# Altium footprint library mb1246b.brd.PcbLib: 73 footprints (part 5 of 6)
Each footprint in its own frame and in the unit in brackets; x right, y up, seen from the top. Pads: shape width x height; smd on the part's side, far side on the other; paste and mask are expansions set on the pad; w line width, h text height; cw(c..) or ccw(c..) is an arc to the next point about the centre after c.
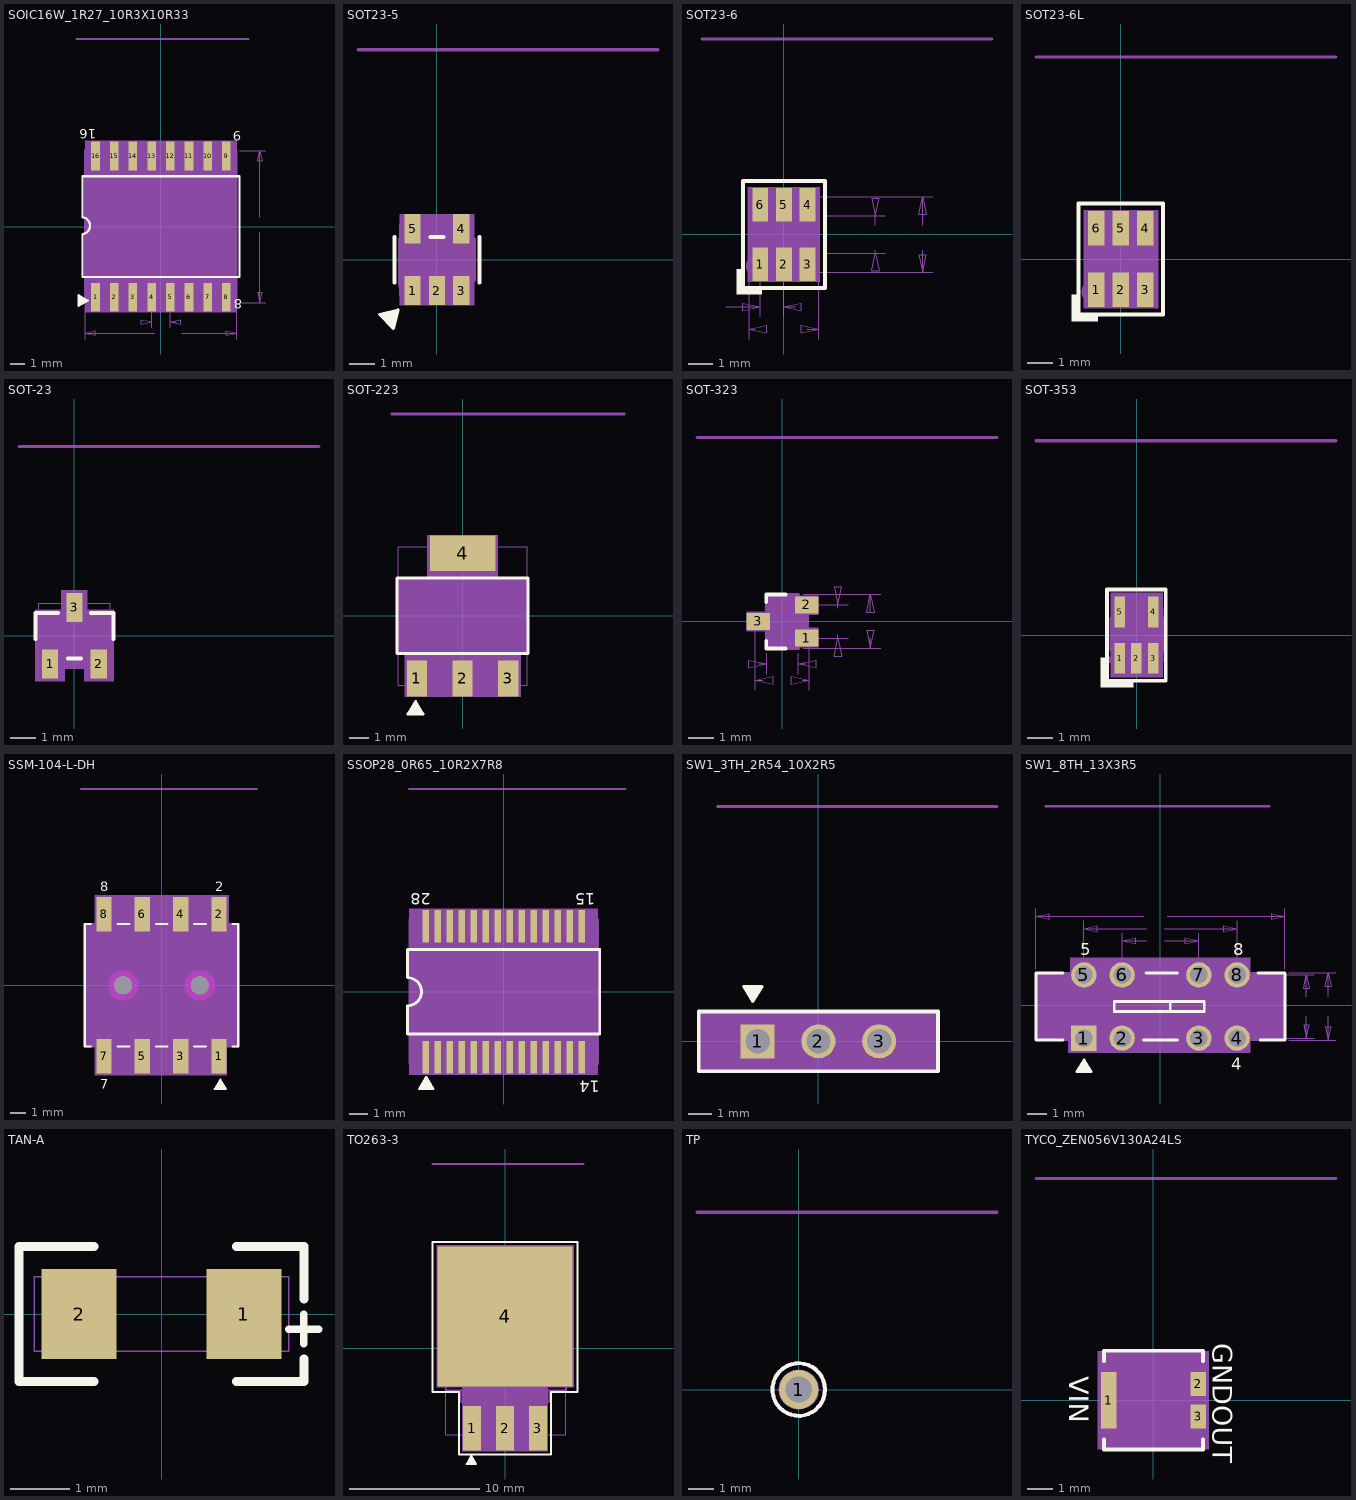
[diagram p4: the footprints below, top view; thin cyan lines are the x and y axes]

## SOIC16W_1R27_10R3X10R33 [mil] "SOIC16W_1R27_10R3X10R33"
pads (16):
  rect 23x77 smd: 1(-175,-188.78) 2(-125,-188.78) 3(-75,-188.78) 4(-25,-188.78) 5(25,-188.78) 6(75,-188.78) 7(125,-188.78) 8(175,-188.78) 9(175,188.78) 10(125,188.78) 11(75,188.78) 12(25,188.78) 13(-25,188.78) 14(-75,188.78) 15(-125,188.78) 16(-175,188.78)
Top Overlay:
  lines w5: -206.5,-197 -206.5,-202 -200.5,-198 -209.5,-192 -209.5,-203 -212.5,-205 -212.5,-190 -216.5,-188 -216.5,-208 -220.5,-208 -220.5,-213 ; -220.5,-213 -220.5,-183 -195.5,-198 -220.5,-213
  lines w6: -210,-135 210,-135 210,135 -210,135 -210,25 cw(c-212.5,2.5) -210,-20 -210,-135
  text ".Designator" at 47,295 h35
  text "16" at -173,260 h25
  text "9" at 215,255 h25
  text "8" at 217,-195 h25
Top Courtyard:
  dashed: 202.76,-229.28 202.76,229.27 -202.75,229.27 -202.75,-229.28
Top 3D Body:
  region: 202.76,-229.28 202.76,229.27 -202.75,229.27 -202.75,-229.28
Top Component Center:
  circle w1: c0,0 r11.81
  lines w1: -15.75,0 15.75,0 ; 0,-15.75 0,15.75
Top Assembly:
  circle w20: c-180,-175 r10
  lines w5: -200,-25 ccw(c-208.75,2.5) -200,30 ; -202.76,-203.25 -202.76,203.25 202.76,203.25 202.76,-203.25 -202.76,-203.25
  text "MT25TL01GHBA8ESF-0SIT" at 277,-325 h30
Mechanical42:
  text "13" at -12.2,188.78 h16
  text "14" at -62.2,188.78 h16
  text "15" at -112.2,188.78 h16
  text "9" at 181.4,188.78 h16
  text "12" at 37.8,188.78 h16
  text "8" at 181.4,-188.78 h16
  text "4" at -18.6,-188.78 h16
  text "1" at -168.6,-188.78 h16
  text "5" at 31.4,-188.78 h16
  text "6" at 81.4,-188.78 h16
  text "7" at 131.4,-188.78 h16
  text "3" at -68.6,-188.78 h16
  text "11" at 87.8,188.78 h16
  text "2" at -118.6,-188.78 h16
  text "10" at 137.8,188.78 h16
  text "16" at -162.2,188.78 h16
Mechanical44:
  lines w5: -226,502 234,502
  text "Sofer Lib Information" at -226,512 h25
  text "Ref PN: ADUM5404ARWZ" at -196,462 h25
  text "Creat : Yuki" at -196,422 h25
  text "Date  : 2007-05-10" at -196,382 h25
  text "Rev   : A1" at -196,342 h25
  text "Remark: ***" at -196,302 h25
Mechanical45:
  text "SOIC16W_1R27_10R3X10R33" at 346,-330 h30
Mechanical47:
  lines w1: -202.76,-300.75 -202.76,-211.12 ; -31,-255 -25,-255 ; -25,-270.75 -25,-196.65 ; -16,-285 -202.76,-285 ; 25,-270.75 25,-196.65 ; 41,-255 25,-255 ; 56,-285 202.76,-285 ; 202.76,-300.75 202.76,-211.12 ; 210.63,-203.25 280.75,-203.25 ; 210.63,203.25 280.75,203.25 ; 265,-15 265,-203.25 ; 265,25 265,203.25 ; -202.76,-285 -175.2,-279.09 -175.2,-290.91 -202.76,-285 ; -25,-255 -52.56,-260.91 -52.56,-249.09 -25,-255 ; 25,-255 52.56,-249.09 52.56,-260.91 25,-255 ; 202.76,-285 175.2,-290.91 175.2,-279.09 202.76,-285 ; 265,-203.25 259.09,-175.69 270.91,-175.69 265,-203.25 ; 265,203.25 270.91,175.69 259.09,175.69 265,203.25
  text "1.27" at -19,-263 h16
  text "10.3" at -4,-293 h16
  text "10.325" at 229,-3 h16
Mechanical48:
  lines w1: -202.76,-203.35 202.76,-203.35 202.76,203.35 -202.76,203.35 -202.76,-203.35
Mechanical49:
  text "Approved" at 112,0 h35
3D body: height 150, standoff 0, extent -202.75,-229.28 202.76,229.27

## SOT23-5 [mil] "SOT23-5"
pads (5):
  rect 25x45 smd: 1(-37.4,-47.24) 2(0,-47.24) 3(37.4,-47.24) 4(37.4,47.24) 5(-37.4,47.24)
Top Overlay:
  lines w5: -68.18,-83.94 -64.65,-87.47 -63.23,-80.4 -73.84,-82.53 -66.06,-90.3 -66.77,-93.84 -77.37,-83.23 -81.62,-84.65 -67.47,-98.79 -70.3,-101.62 -66.77,-105.15 ; -66.77,-105.15 -59.7,-76.87 -87.98,-83.94 -66.77,-105.15
  lines w6: -65,-35 -65,-10 -65,10 -65,35 ; -10,35 10,35 ; 65,-35 65,35
Top Courtyard:
  dashed: 57.09,-70 57.09,70 -57.09,70 -57.09,-70
Top 3D Body:
  region: 57.09,-70 57.09,70 -57.09,70 -57.09,-70
Top Component Center:
  circle w1: c0,0 r11.81
  lines w1: -15.75,0 15.75,0 ; 0,-15.75 0,15.75
Top Assembly:
  circle w20: c-40,-35 r10
  lines w5: -57.09,-31.5 57.09,-31.5 ; -57.09,-30 -57.09,30 ; -57.09,31.5 57.09,31.5 ; -46,-55.12 -29,-55.12 ; -46,-54 -46,-34 ; -46,35 -46,55 ; -46,55.12 -29,55.12 ; -29,-54 -29,-34 ; -29,35 -29,55 ; -8.5,-54 -8.5,-34 ; -8,-55.12 8,-55.12 ; 8.5,-54 8.5,-34 ; 29,-55.12 46,-55.12 ; 29,-55 29,-35 ; 29,35 29,55 ; 29,55.12 46,55.12 ; 46,-55 46,-35 ; 46,35 46,55 ; 57.09,-30 57.09,30
  text ".Designator" at -24,-15 h30
Mechanical42:
  text "2" at -6.4,-47.24 h16
  text "5" at -43.8,47.24 h16
  text "4" at 31,47.24 h16
  text "3" at 31,-47.24 h16
  text "1" at -43.8,-47.24 h16
Mechanical44:
  lines w5: -121,322 339,322
  text "Sofer Lib Information" at -121,332 h25
  text "Ref PN: ***" at -91,282 h25
  text "Creat : Sofer Tech" at -91,242 h25
  text "Date  : 2007-11-01" at -91,202 h25
  text "Rev   : A1" at -91,162 h25
  text "Remark: ***" at -91,122 h25
Mechanical45:
  text "SOT23-5" at -94,-160 h30
Mechanical48:
  lines w1: -57.09,-55.12 -57.09,55.12 57.09,55.12 57.09,-55.12 -57.09,-55.12
Mechanical49:
  text "Approved" at -112,0 h35
3D body: height 150, standoff 0, extent -57.09,-70 57.09,70

## SOT23-6 [mil] "SOT23-6"
pads (6):
  rect 25x53 smd: 1(-37.4,-47.24) 2(0,-47.24) 3(37.4,-47.24) 4(37.4,47.24) 5(0,47.24) 6(-37.4,47.24)
Top Overlay:
  dashed: -65,-55 -75,-55 -75,-95 -35,-95 -35,-85 -65,-85
  lines w6: -65,-85 -65,85 65,85 65,-85 -65,-85
Top Courtyard:
  dashed: -57.09,-75 57.09,-75 57.09,75 -57.09,75
Top 3D Body:
  region: -57.09,-75 57.09,-75 57.09,75 -57.09,75
Top Component Center:
  circle w1: c0,0 r11.81
  lines w1: -15.75,0 15.75,0 ; 0,-15.75 0,15.75
Top Assembly:
  circle w20: c-40,-50 r10
  lines w5: -45,-30 -45,-60 -30,-60 -30,-30 ; -45,30 -45,60 -30,60 -30,30 ; -7.5,-30 -7.5,-60 7.5,-60 7.5,-30 ; -7.5,30 -7.5,60 7.5,60 7.5,30 ; 30,-30 30,-60 45,-60 45,-30 ; 30,30 30,60 45,60 45,30 ; -55,-30 -55,30 55,30 55,-30 -55,-30
  text "USBLC6-4SC6" at -105,-13.33 h25
  text ".Designator" at -24,-15 h30
Mechanical42:
  text "2" at -6.4,-47.24 h16
  text "3" at 31,-47.24 h16
  text "4" at 31,47.24 h16
  text "1" at -43.8,-47.24 h16
  text "6" at -43.8,47.24 h16
  text "5" at -6.4,47.24 h16
Mechanical44:
  lines w5: -130,310 330,310
  text "Remark: update pin size by Jacky" at -100,110 h25
  text "Rev   : B2" at -100,150 h25
  text "Date  : 2009-09-28" at -100,190 h25
  text "Ref PN: RT9293BGJ6" at -100,270 h25
  text "Sofer Lib Information" at -130,320 h25
  text "Creat : Jacky" at -100,230 h25
Mechanical45:
  text "SOT23-6" at -89,-225 h30
Mechanical47:
  lines w1: -92.52,-115 -37.4,-115 ; -55,-165.75 -55,-37.87 ; -47,-150 -55,-150 ; -37.4,-130.75 -37.4,-55.12 ; 0,-130.75 0,-55.12 ; 19,-115 0,-115 ; 37,-150 55,-150 ; 52.87,-60 235.75,-60 ; 52.87,60 235.75,60 ; 55,-165.75 55,-37.87 ; 62.87,-30 160.75,-30 ; 62.87,30 160.75,30 ; 145,-25 145,-30 ; 145,15 145,30 ; 220,-25 220,-60 ; 220,15 220,60 ; -55,-150 -27.44,-155.91 -27.44,-144.09 -55,-150 ; -37.4,-115 -64.96,-109.09 -64.96,-120.91 -37.4,-115 ; 0,-115 27.56,-120.91 27.56,-109.09 0,-115 ; 55,-150 27.44,-144.09 27.44,-155.91 55,-150 ; 145,-30 139.09,-57.56 150.91,-57.56 145,-30 ; 145,30 150.91,57.56 139.09,57.56 145,30 ; 220,-60 225.91,-32.44 214.09,-32.44 220,-60 ; 220,60 214.09,32.44 225.91,32.44 220,60
  text "2.794" at -35,-158 h16
  text "3.048" at 190,-13 h16
  text "1.524" at 115,-13 h16
  text "0.95" at 31,-123 h16
Mechanical48:
  lines w1: -55,-60 -55,60 55,60 55,-60 -55,-60
Mechanical49:
  text "Approved" at -112,0 h35
3D body: height 150, standoff 0, extent -57.09,-75 57.09,75

## SOT23-6L [mil] "SOT23-6L"
pads (6):
  rect 25x53 smd: 1(-37.4,-47.24) 2(0,-47.24) 3(37.4,-47.24) 4(37.4,47.24) 5(0,47.24) 6(-37.4,47.24)
Top Overlay:
  dashed: -65,-55 -75,-55 -75,-95 -35,-95 -35,-85 -65,-85
  lines w6: -65,-85 -65,85 65,85 65,-85 -65,-85
Top Courtyard:
  dashed: -57.09,-75 57.09,-75 57.09,75 -57.09,75
Top 3D Body:
  region: -57.09,-75 57.09,-75 57.09,75 -57.09,75
Top Component Center:
  circle w1: c0,0 r11.81
  lines w1: -15.75,0 15.75,0 ; 0,-15.75 0,15.75
Top Assembly:
  circle w20: c-40,-50 r10
  lines w5: -45,-30 -45,-60 -30,-60 -30,-30 ; -45,30 -45,60 -30,60 -30,30 ; -7.5,-30 -7.5,-60 7.5,-60 7.5,-30 ; -7.5,30 -7.5,60 7.5,60 7.5,30 ; 30,-30 30,-60 45,-60 45,-30 ; 30,30 30,60 45,60 45,30 ; -55,-30 -55,30 55,30 55,-30 -55,-30
  text "ESDA6V1BC6" at 105,-13.33 h25
  text ".Designator" at 36,-15 h30
Mechanical42:
  text "6" at -31,47.24 h16
  text "5" at 6.4,47.24 h16
  text "2" at 6.4,-47.24 h16
  text "1" at -31,-47.24 h16
  text "4" at 43.8,47.24 h16
  text "3" at 43.8,-47.24 h16
Mechanical44:
  lines w5: -130,310 330,310
  text "Remark: update pin size by Jacky" at -100,110 h25
  text "Rev   : B2" at -100,150 h25
  text "Date  : 2009-09-28" at -100,190 h25
  text "Ref PN: RT9293BGJ6" at -100,270 h25
  text "Sofer Lib Information" at -130,320 h25
  text "Creat : Jacky" at -100,230 h25
Mechanical45:
  text "SOT23-6" at 79,-135 h30
Mechanical48:
  lines w1: -55,-60 -55,60 55,60 55,-60 -55,-60
Mechanical49:
  text "Approved" at 112,0 h35
3D body: height 150, standoff 0, extent -57.09,-75 57.09,75

## SOT-23 [mil] "SOT-23"
pads (3):
  rect 25x45 smd: 1(-37.4,-43.31) 2(37.4,-43.31) 3(0,43.31)
Top Overlay:
  lines w6: -60,-5 -60,35 -25,35 ; -10,-35 10,-35 ; 25,35 60,35 60,-5
  text ".Designator" at -25,80 h35
Top 3D Body:
  region: -60,-70 -15,-70 -15,-50 15,-50 15,-70 60,-70 60,40 20,40 20,70 -20,70 -20,40 -60,40
Top Component Center:
  circle w1: c0,0 r11.81
  lines w1: -15.75,0 15.75,0 ; 0,-15.75 0,15.75
Top Assembly:
  lines w6: -45,-25 -45,-50 -30,-50 -30,-25 ; -10,25 -10,50 10,50 10,25 ; 30,-25 30,-50 45,-50 45,-25 ; -55,-25 -55,25 55,25 55,-25 -55,-25
  text "9013" at 38,-110 h30
Mechanical42:
  text "3" at 6.4,43.31 h16
  text "1" at -31,-43.31 h16
  text "2" at 43.8,-43.31 h16
Mechanical44:
  lines w5: -85,290 375,290
  text "Ref PN: ***" at -55,250 h25
  text "Creat : Sofer Tech" at -55,210 h25
  text "Date  : 2009-09-28" at -55,170 h25
  text "Rev   : B2" at -55,130 h25
  text "Remark: Updated pin size by Jacky" at -55,90 h25
  text "Sofer Lib Information" at -85,300 h25
Mechanical45:
  text "SOT-23" at 79,-115 h35
Mechanical48:
  lines w1: -55,-50 -55,50 55,50 55,-50 -55,-50
Mechanical49:
  text "Approved" at 112,0 h35
3D body: height 150, standoff 0, extent -60,-70 60,70

## SOT-223 [mil] "SOT-223"
pads (4):
  rect 40x71 smd: 1(-90.55,-124.02) 2(0,-124.02) 3(90.55,-124.02)
  rect 130x71 smd: 4(0,124.02)
Top Overlay:
  lines w5: -94.2,-180.47 -89.2,-180.47 -93.2,-174.47 -99.2,-183.47 -88.2,-183.47 -86.2,-186.47 -101.2,-186.47 -103.2,-190.47 -83.2,-190.47 -83.2,-194.47 -78.2,-194.47 ; -78.2,-194.47 -93.2,-169.47 -108.2,-194.47 -78.2,-194.47
  lines w6: -130,-75 -130,70 -130,75 130,75 130,-75 -130,-75
  text ".Designator" at 5,-280 h35
Top 3D Body:
  region: -115,-160 115,-160 115,-85 115,-80 115,-75 127.95,-75 127.95,75 70,75 70,80 70,160 -70,160 -70,80 -70,75 -127.95,75 -127.95,-75 -115,-75 -115,-80
Top Component Center:
  circle w1: c0,0 r11.81
  lines w1: -15.75,0 15.75,0 ; 0,-15.75 0,15.75
Top Assembly:
  circle w20: c-90,-45 r10
  lines w5: -127.95,70 -127.95,70.08 ; -105,-70 -105,-135 -75,-135 -75,-70 ; -55,70 -55,145 55,145 55,70 ; -15,-70 -15,-135 15,-135 15,-70 ; 80,-70 75,-70 75,-135 105,-135 105,-70 ; -127.95,70.08 -127.95,-70.08 127.95,-70.08 127.95,70.08 -127.95,70.08 ; -75,-70 -80,-70 -75,-70
  text "LD1117S18TR" at 10,-147 h30
Mechanical42:
  text "1" at -90.55,-130.42 h16
  text "3" at 90.55,-130.42 h16
  text "2" at 0,-130.42 h16
  text "4" at 0,117.62 h16
Mechanical44:
  lines w5: -140,400 320,400
  text "Creat : Sofer Tech" at -110,320 h25
  text "Sofer Lib Information" at -140,410 h25
  text "Ref PN: ***" at -110,360 h25
  text "Date  : 2007-**-**" at -110,280 h25
  text "Rev   : A1" at -110,240 h25
  text "Remark: ***" at -110,200 h25
Mechanical45:
  text "SOT-223" at 25,-289 h30
Mechanical48:
  lines w1: -127.95,-137.01 -127.95,137.01 127.95,137.01 127.95,-137.01 -127.95,-137.01
Mechanical49:
  text "Approved" at 0,-112 h35
3D body: height 150, standoff 0, extent -127.95,-160 127.95,160

## SOT-323 [mil] "SOT-323"
pads (3):
  rect 36x26 smd: 1(37.4,-25.59) 2(37.4,25.59) 3(-37.4,0)
Top Overlay:
  lines w6: -24.87,-30 -24.87,-41.52 5,-41.52 ; -24.87,30 -24.87,41.16 5,41.16
Top 3D Body:
  region: 55,-39.37 55,-10 40,-10 40,10 55,10 55,39.37 -25,39.37 -25,15 -55,15 -55,-15 -25,-15 -25,-39.37
Top Component Center:
  circle w1: c0,0 r11.81
  lines w1: -15.75,0 15.75,0 ; 0,-15.75 0,15.75
Top Assembly:
  lines w5: -41.34,-6.89 -41.34,6.89 -24.41,6.89 -24.41,41.54 24.41,41.54 24.41,32.68 41.34,32.68 41.34,18.9 24.41,18.9 24.41,-18.5 41.34,-18.5 41.34,-32.28 24.41,-32.28 24.41,-41.14 -24.41,-41.14 -24.41,-6.89 -41.34,-6.89
  text "ESDCAN02-2BWY" at -156,-160 h30
  text ".Designator" at -14,-10 h30
Mechanical42:
  text "3" at -49.14,-5.33 h16
  text "1" at 25.67,-30.93 h16
  text "2" at 25.67,20.26 h16
Mechanical44:
  lines w5: -131,282 329,282
  text "Remark: ***" at -101,82 h25
  text "Rev   : C1" at -101,122 h25
  text "Date  : 2009-02-06" at -101,162 h25
  text "Creat : Yuki" at -101,202 h25
  text "Ref PN: BAV199W" at -101,242 h25
  text "Sofer Lib Information" at -131,292 h25
Mechanical45:
  text "SOT-323\SC-70" at -136,-165 h30
Mechanical47:
  lines w1: -41.34,-105.75 -41.34,-14.76 ; -36,-65 -24.41,-65 ; -30,-90 -41.34,-90 ; -24.41,-80.75 -24.41,-49.02 ; 24.41,-80.75 24.41,-49.02 ; 30,-90 41.34,-90 ; 32.28,-41.14 150.75,-41.14 ; 32.28,41.54 150.75,41.54 ; 36,-65 24.41,-65 ; 41.34,-105.75 41.34,-40.16 ; 45.28,-25.59 100.75,-25.59 ; 45.28,25.59 100.75,25.59 ; 85,-20 85,-25.59 ; 85,20 85,25.59 ; 135,-25 135,-41.14 ; 135,15 135,41.54 ; -41.34,-90 -13.78,-95.91 -13.78,-84.09 -41.34,-90 ; -24.41,-65 -51.97,-59.09 -51.97,-70.91 -24.41,-65 ; 24.41,-65 51.97,-70.91 51.97,-59.09 24.41,-65 ; 41.34,-90 13.78,-84.09 13.78,-95.91 41.34,-90 ; 85,-25.59 79.09,-53.15 90.91,-53.15 85,-25.59 ; 85,25.59 90.91,53.15 79.09,53.15 85,25.59 ; 135,-41.14 140.91,-13.58 129.09,-13.58 135,-41.14 ; 135,41.54 129.09,13.98 140.91,13.98 135,41.54
  text "2.1" at -18,-98 h16
  text "1.24" at -24,-73 h16
  text "2.1" at 117,-13 h16
  text "1.3" at 67,-8 h16
Mechanical49:
  text "Approved" at -113.67,-1.67 h35
3D body: height 150, standoff 0, extent -55,-39.37 55,39.37

## SOT-353 [mil] "SOT-353"
pads (5):
  rect 16x47 smd: 1(-25.91,-35.43) 2(-0.32,-35.43) 3(25.27,-35.43) 4(25.27,35.43) 5(-25.91,35.43)
Top Overlay:
  dashed: -45.32,-35 -55.32,-35 -55.32,-80 -5.32,-80 -5.32,-70 -45.32,-70
  lines w6: -45.32,-70 -45.32,70 44.68,70 44.68,-70 -45.32,-70
Top Courtyard:
  dashed: -39.69,-65 39.68,-65 39.68,65 -39.69,65
Top 3D Body:
  region: -39.69,-65 39.68,-65 39.68,65 -39.69,65
Top Component Center:
  circle w1: c-0.32,0 r11.81
  circle w1: c-0.32,0 r11.81
  lines w1: -16.07,0 15.43,0 -16.07,0 ; -0.32,-15.75 -0.32,15.75 -0.32,-15.75
Top Assembly:
  circle w3.94: c-41.32,-38 r2.83
  lines w3.94: -32.32,-24 -32.32,-40.83 -20.32,-40.83 ; -31.5,26 -31.5,40.83 ; -31.5,41.83 -19.5,41.83 -19.5,26 ; -20.32,-40 -20.32,-25 ; -6.32,-24 -6.32,-40.83 5.68,-40.83 ; 5.68,-40 5.68,-24 ; 19.68,-24 19.68,-40.83 31.68,-40.83 ; 19.68,26 19.68,41 ; 19.68,41.83 31.68,41.83 31.68,26 ; 31.68,-40 31.68,-24 ; -39.32,-23.61 -39.32,25.61 40.68,25.61 40.68,-23.61 -39.32,-23.61
  text "ESDALC6V1W5" at -125.32,-165 h30
  text ".Designator" at -21.32,-21 h40
Mechanical42:
  text "2" at -6.72,-35.43 h16
  text "3" at 18.87,-35.43 h16
  text "1" at -32.31,-35.43 h16
  text "5" at -32.31,35.43 h16
  text "4" at 18.87,35.43 h16
Mechanical44:
  lines w5: -154.32,298 305.68,298
  text "Remark: ***" at -124.32,98 h25
  text "Rev   : A1" at -124.32,138 h25
  text "Date  : 2007-11-30" at -124.32,178 h25
  text "Creat : Yuki" at -124.32,218 h25
  text "Ref PN: ESDALC6V1W5" at -124.32,258 h25
  text "Sofer Lib Information" at -154.32,308 h25
Mechanical45:
  text "SOT-353" at -79.32,-163 h30
Mechanical48:
  lines w1: -39.32,-41 -39.32,42 40.68,42 40.68,-41 -39.32,-41
Mechanical49:
  text "Approved" at -112.32,0 h35
3D body: height 150, standoff 0, extent -39.69,-65 39.68,65

## SSM-104-L-DH [mil] "SSM-104-L-DH"
pads (10):
  rect 40x90 smd: 1(149.61,-184.96) 2(149.61,184.96) 3(49.61,-184.96) 4(49.61,184.96) 5(-50.39,-184.96) 6(-50.39,184.96) 7(-150.39,-184.96) 8(-150.39,184.96)
  round 47 hole 47 unplated: ""(-100.39,0) ""(99.61,0)
Top Overlay:
  lines w5: 152,-256.5 157,-256.5 153,-250.5 147,-259.5 158,-259.5 160,-262.5 145,-262.5 143,-266.5 163,-266.5 163,-270.5 168,-270.5 ; 168,-270.5 153,-245.5 138,-270.5 168,-270.5
  lines w6: -185,-159.84 -200.39,-159.84 -200.39,159.84 -185,159.84 ; -115,-159.84 -85,-159.84 ; -115,159.84 -85,159.84 ; -15,-159.84 15,-159.84 ; -15,159.84 15,159.84 ; 85,-159.84 115,-159.84 ; 85,159.84 115,159.84 ; 185,-159.84 199.61,-159.84 199.61,159.84 185,159.84
  text "2" at 140,245 h25
  text ".Designator" at 231.61,271.84 h35
  text "8" at -160,245 h25
  text "7" at -160,-270 h25
Top 3D Body:
  region: -175,-235 170,-235 170,-160 200,-160 200,160 175,160 175,235 -175,235 -175,160 -200,160 -200,-160 -175,-160
Top Component Center:
  circle w1: c-0.39,0 r11.81
  lines w1: -16.14,0 15.36,0 ; -0.39,-15.75 -0.39,15.75
Multi-Layer keep-out:
  region: -100.39,-39.71 -90.11,-38.36 -80.54,-34.39 -72.31,-28.08 -66,-19.85 -62.03,-10.28 -60.68,0 -62.03,10.28 -66,19.85 -72.31,28.08 -80.54,34.39 -90.11,38.36 -100.39,39.71 -110.67,38.36 -120.24,34.39 -128.47,28.08 -134.78,19.85 -138.75,10.28 -140.1,0 -138.75,-10.28 -134.78,-19.85 -128.47,-28.08 -120.24,-34.39 -110.67,-38.36
  region: 99.61,-39.71 109.89,-38.36 119.46,-34.39 127.69,-28.08 134,-19.85 137.97,-10.28 139.32,0 137.97,10.28 134,19.85 127.69,28.08 119.46,34.39 109.89,38.36 99.61,39.71 89.33,38.36 79.76,34.39 71.53,28.08 65.22,19.85 61.25,10.28 59.9,0 61.25,-10.28 65.22,-19.85 71.53,-28.08 79.76,-34.39 89.33,-38.36
Top Assembly:
  lines w5: -200.39,-159.84 -200.39,159.84 -160.23,159.84 -160.23,220.08 159.45,220.08 159.45,159.84 199.61,159.84 199.61,-159.84 159.45,-159.84 159.45,-220.08 -160.23,-220.08 -160.23,-159.84 -200.39,-159.84
  text "F206A-2_04MGF-A" at -25,-150 h30
Mechanical42:
  text "7" at -150.39,-178.56 h16
  text "5" at -50.39,-178.56 h16
  text "2" at 149.61,191.36 h16
  text "8" at -150.39,191.36 h16
  text "6" at -50.39,191.36 h16
  text "3" at 49.61,-178.56 h16
  text "4" at 49.61,191.36 h16
  text "1" at 149.61,-178.56 h16
Mechanical44:
  lines w5: -211,512 249,512
  text "Sofer Lib Information" at -211,522 h25
  text "Ref PN: SSM-104-L-DH" at -181,472 h25
  text "Creat : Yuki" at -181,432 h25
  text "Date  : 2012-08-01" at -181,392 h25
  text "Rev   : A1" at -181,352 h25
  text "Remark: D031-006A1" at -181,312 h25
Mechanical45:
  text "SSM-104-L-DH" at 5,-186 h30
Mechanical49:
  text "OK" at -0.39,28 h35
3D body: height 150, standoff 0, extent -200,-235 200,235

## SSOP28_0R65_10R2X7R8 [mil] "SSOP28_0R65_10R2X7R8"
pads (28):
  rect 14x69 smd: 1(-166.34,-139.76) 2(-140.75,-139.76) 3(-115.16,-139.76) 4(-89.57,-139.76) 5(-63.98,-139.76) 6(-38.39,-139.76) 7(-12.8,-139.76) 8(12.8,-139.76) 9(38.39,-139.76) 10(63.98,-139.76) 11(89.57,-139.76) 12(115.16,-139.76) 13(140.75,-139.76) 14(166.34,-139.76) 15(166.34,139.76) 16(140.75,139.76) 17(115.16,139.76) 18(89.57,139.76) 19(63.98,139.76) 20(38.39,139.76) 21(12.8,139.76) 22(-12.8,139.76) 23(-38.39,139.76) 24(-63.98,139.76) 25(-89.57,139.76) 26(-115.16,139.76) 27(-140.75,139.76) 28(-166.34,139.76)
Top Overlay:
  lines w5: -166,-193.5 -161,-193.5 -165,-187.5 -171,-196.5 -160,-196.5 -158,-199.5 -173,-199.5 -175,-203.5 -155,-203.5 -155,-207.5 -150,-207.5 ; -150,-207.5 -165,-182.5 -180,-207.5 -150,-207.5
  lines w6: -205,-90 205,-90 205,90 -205,90 -205,30 cw(c-205,0) -205,-30 -205,-90
  text "14" at 205,-190 h25
  text "15" at 195,210 h25
  text "28" at -155,210 h25
Top Courtyard:
  dashed: 200.79,-177.26 200.79,177.26 -200.78,177.26 -200.78,-177.26
Top 3D Body:
  region: 200.79,-177.26 200.79,177.26 -200.78,177.26 -200.78,-177.26
Top Component Center:
  circle w1: c0,0 r11.81
  lines w1: -15.75,0 15.75,0 ; 0,-15.75 0,15.75
Top Assembly:
  circle w20: c-175,-125 r10
  lines w5: -200,-35 ccw(c-205,0) -200,35 ; -200.79,-153.54 200.79,-153.54 200.79,153.54 -200.79,153.54 -200.79,-153.54
  text ".Designator" at 37,-18.33 h40
  text "ST3241EBPR" at 70,-275 h30
Mechanical42:
  text "16" at 153.55,139.76 h16
  text "25" at -76.77,139.76 h16
  text "23" at -25.59,139.76 h16
  text "22" at 0,139.76 h16
  text "26" at -102.36,139.76 h16
  text "15" at 179.14,139.76 h16
  text "14" at 179.14,-139.76 h16
  text "12" at 127.96,-139.76 h16
  text "18" at 102.37,139.76 h16
  text "11" at 102.37,-139.76 h16
  text "19" at 76.78,139.76 h16
  text "9" at 44.79,-139.76 h16
  text "21" at 25.6,139.76 h16
  text "8" at 19.2,-139.76 h16
  text "4" at -83.17,-139.76 h16
  text "20" at 51.19,139.76 h16
  text "1" at -159.94,-139.76 h16
  text "2" at -134.35,-139.76 h16
  text "3" at -108.76,-139.76 h16
  text "24" at -51.18,139.76 h16
  text "28" at -153.54,139.76 h16
  text "27" at -127.95,139.76 h16
  text "6" at -31.99,-139.76 h16
  text "10" at 76.78,-139.76 h16
  text "5" at -57.58,-139.76 h16
  text "7" at -6.4,-139.76 h16
  text "13" at 153.55,-139.76 h16
  text "17" at 127.96,139.76 h16
Mechanical44:
  lines w5: -201,432 259,432
  text "Sofer Lib Information" at -201,442 h25
  text "Ref PN: ST3241EBPR" at -171,392 h25
  text "Creat : Yuki" at -171,352 h25
  text "Date  : 2007-12-26" at -171,312 h25
  text "Rev   : A1" at -171,272 h25
  text "Remark: ***" at -171,232 h25
Mechanical45:
  text "SSOP28_0R65_10R2X7R8" at 275,-270 h30
Mechanical48:
  lines w1: -200.79,-153.54 -200.79,153.54 200.79,153.54 200.79,-153.54 -200.79,-153.54
Mechanical49:
  text "Approved" at 112,0 h35
3D body: height 150, standoff 0, extent -200.78,-177.26 200.79,177.26

## SW1_3TH_2R54_10X2R5 [mil] "SW1_3TH_2R54_10X2R5"
pads (3):
  rect 56x56 / inner round 56 / far side rect 56x56 hole 40: 1(-100,0)
  round 56 hole 40: 2(0,0) 3(100,0)
Top Overlay:
  lines w5: -107.01,76.5 -112.01,76.5 -107.99,70.51 -102.01,79.49 -112.99,79.49 -115,82.48 -100,82.48 -97.99,86.5 -117.99,86.5 -117.99,90.51 -122.99,90.51 ; -122.99,90.51 -107.99,65.51 -92.99,90.51 -122.99,90.51
  lines w5.98: -196.85,-49.21 -196.85,49.21 196.85,49.21 196.85,-49.21 -196.85,-49.21
Top Courtyard:
  dashed: 200,-50 200,50 -200,50 -200,-50
Top 3D Body:
  region: 195,-50 195,50 -195,50 -195,-50
Top Component Center:
  circle w1: c-100,0 r11.81
  circle w1: c-100,0 r11.81
  lines w1: -115.75,0 -84.25,0 -115.75,0 ; -100,-15.75 -100,15.75 -100,-15.75
Top Assembly:
  circle w20: c-100,0 r10
  lines w5: -196.85,-49.21 -196.85,49.21 196.85,49.21 196.85,-49.21 -196.85,-49.21
  text ".Designator" at 10,21 h30
  text "09.03290.01" at 25,-3 h30
Mechanical42:
  text "3" at 100,6.39 h15.98
  text "1" at -100,6.39 h15.98
  text "2" at 0,6.39 h15.98
Mechanical44:
  lines w5: -165.98,387.01 294.02,387.01
  text "Sofer Lib Information" at -165.98,397.01 h25
  text "Ref PN: ***" at -135.98,347.01 h25
  text "Creat : Yuki" at -135.98,307.01 h25
  text "Date  : 2012-08-09" at -135.98,267.01 h25
  text "Rev   : A1" at -135.98,227.01 h25
  text "Remark: D031-006A1" at -135.98,187.01 h25
Mechanical45:
  text "SW1_3TH_2R54_10X2R5" at 30,93 h30
Mechanical49:
  text "OK" at 0,18 h35
3D body: height 150, standoff 0, extent -195,-50 195,50

## SW1_8TH_13X3R5 [mil] "SW1_8TH_13X3R5"
pads (8):
  rect 52x52 hole 36: 1(-157.48,-67.46)
  round 52 hole 36: 2(-78.74,-67.46) 3(78.74,-67.46) 4(157.48,-67.46) 5(-157.48,62.46) 6(-78.74,62.46) 7(78.74,62.46) 8(157.48,62.46)
Top Overlay:
  lines w5: -158,-123 -153,-123 -157,-117 -163,-126 -152,-126 -150,-129 -165,-129 -167,-133 -147,-133 -147,-137 -142,-137 ; -142,-137 -157,-112 -172,-137 -142,-137
  lines w6: -200,-71.4 -255.91,-71.4 -255.91,66.4 -200,66.4 ; -35,-71.4 35,-71.4 ; -30,66.4 35,66.4 ; 20,7.5 20,-12.5 90,-12.5 ; 200,66.4 255.91,66.4 255.91,-71.4 205,-71.4 ; 90,-12.5 90,7.5 ; 90,-12.5 -95,-12.5 -95,7.5 90,7.5 ; 90,-12.5 90,7.5
  text "5" at -165,102.5 h25
  text "8" at 150,102.5 h25
  text "4" at 145,-132.5 h25
  text ".Designator" at 265,-27.5 h35
Top 3D Body:
  region: -190,-97.5 185,-97.5 185,-72.5 255,-72.5 255,67.5 185,67.5 185,97.5 -185,97.5 -185,67.5 -255,67.5 -255,-72.5 -190,-72.5
Top Component Center:
  circle w1: c0,-2.5 r11.81
  lines w1: -15.75,-2.5 15.75,-2.5 ; 0,-18.25 0,13.25
Top Assembly:
  circle w20: c-158,-66.5 r10
  lines w5: 20,7.5 20,-12.5 90,-12.5 ; 90,-12.5 -95,-12.5 -95,7.5 90,7.5 ; 90,-12.5 90,7.5 ; 90,-12.5 90,7.5 ; -255.91,-71.4 -255.91,66.4 255.91,66.4 255.91,-71.4 -255.91,-71.4
  text "MS-23D18" at -156,-217.5 h30
Mechanical42:
  text "6" at -85.14,62.46 h16
  text "2" at -85.14,-67.46 h16
  text "8" at 151.08,62.46 h16
  text "7" at 72.34,62.46 h16
  text "3" at 72.34,-67.46 h16
  text "4" at 151.08,-67.46 h16
  text "1" at -163.88,-67.46 h16
  text "5" at -163.88,62.46 h16
Mechanical44:
  lines w5: -236,409.5 224,409.5
  text "Remark: D031-020A1" at -206,209.5 h25
  text "Rev   : A1" at -206,249.5 h25
  text "Date  : 2015-12-09" at -206,289.5 h25
  text "Creat : Yuki" at -206,329.5 h25
  text "Ref PN: MS-23D18-00" at -206,369.5 h25
  text "Sofer Lib Information" at -236,419.5 h25
Mechanical45:
  text "SW1_8TH_13X3R5" at -173,-217.5 h30
Mechanical46:
  text "NO" at -28,-2.5 h35
Mechanical47:
  lines w1: -255.91,74.27 -255.91,198.25 ; -157.48,54.59 -157.48,173.25 ; -78.74,54.59 -78.74,148.25 ; -34,182.5 -255.91,182.5 ; -28,132.5 -78.74,132.5 ; -28,157.5 -157.48,157.5 ; 8,132.5 78.74,132.5 ; 8,157.5 157.48,157.5 ; 14,182.5 255.91,182.5 ; 78.74,54.59 78.74,148.25 ; 157.48,54.59 157.48,173.25 ; 165.35,-67.46 315.75,-67.46 ; 165.35,62.46 315.75,62.46 ; 255.91,74.27 255.91,198.25 ; 263.78,-71.4 360.75,-71.4 ; 263.78,66.4 360.75,66.4 ; 300,-22.5 300,-67.46 ; 300,17.5 300,62.46 ; 345,-22.5 345,-71.4 ; 345,17.5 345,66.4 ; -255.91,182.5 -228.35,176.59 -228.35,188.41 -255.91,182.5 ; -157.48,157.5 -129.92,151.59 -129.92,163.41 -157.48,157.5 ; -78.74,132.5 -51.18,126.59 -51.18,138.41 -78.74,132.5 ; 78.74,132.5 51.18,138.41 51.18,126.59 78.74,132.5 ; 157.48,157.5 129.92,163.41 129.92,151.59 157.48,157.5 ; 255.91,182.5 228.35,188.41 228.35,176.59 255.91,182.5 ; 300,-67.46 305.91,-39.9 294.09,-39.9 300,-67.46 ; 300,62.46 294.09,34.9 305.91,34.9 300,62.46 ; 345,-71.4 350.91,-43.84 339.09,-43.84 345,-71.4 ; 345,66.4 339.09,38.84 350.91,38.84 345,66.4
  text "3.3" at 282,-10.5 h16
  text "3.5" at 327,-10.5 h16
  text "4" at -16,124.5 h16
  text "8" at -16,149.5 h16
  text "13" at -22,174.5 h16
3D body: height 150, standoff 0, extent -255,-97.5 255,97.5

## TAN-A [mil] "TAN-A"
pads (2):
  rect 50x60 smd: 1(55,0) 2(-55,0)
Top Overlay:
  lines w5: 85,-10 105,-10 ; 95,-20 95,0
  lines w6: -45,-45 -95,-45 -95,45 -45,45 ; 50,-45 95,-45 95,-30 ; 50,45 95,45 95,10
Top 3D Body:
  lines w1: -85,-25 -85,25 85,25 85,-25 -85,-25
Top Assembly:
  lines w1: -85,-25 -85,25 85,25 85,-25 -85,-25
  text ".Designator" at -98,106 h60
Mechanical42:
  text "1" at 55,-6.4 h16
  text "2" at -55,-6.4 h16

## TO263-3 [mil] "TO263-3"
pads (4):
  rect 54x135 smd: 1(-100,-242.43) 2(0,-242.43) 3(100,-242.43)
  rect 410x425 smd: 4(0,97.14)
Top Overlay:
  lines w5: -103,-337.12 -98,-337.12 -102,-331.12 -108,-340.12 -97,-340.12 -95,-343.12 -110,-343.12 -112,-347.12 -92,-347.12 -92,-351.12 -87,-351.12 ; -87,-351.12 -117,-351.12 -102,-326.12 -87,-351.12
  lines w6: -220,-132.65 -140,-132.65 -140,-322.65 140,-322.65 140,-132.65 220,-132.65 220,322.35 -220,322.35 -220,-132.65
Top Courtyard:
  dashed: -124,-295.62 124,-295.62 124,-118.37 208,-118.37 208,312.64 -208,312.64 -208,-118.36 -124,-118.36
Top 3D Body:
  region: -130,-312.65 130,-312.65 130,-118.37 208,-118.37 208,312.64 -208,312.64 -208,-118.36 -130,-118.36
Top Component Center:
  circle w1: c0,-45.58 r11.81
  lines w1: -15.75,-45.58 15.75,-45.58 ; 0,-61.33 0,-29.83
Top Assembly:
  circle w20: c-100,-285.62 r10
  lines w5: -130,-127.65 -135,-127.65 -135,-162.65 ; -125,-162.65 125,-162.65 ; -120,-127.65 -180,-127.65 ; -180,-127.65 -180,282.35 185,282.35 185,-127.65 ; -180,-127.65 185,-127.65 ; -135,-162.65 -120,-162.65 -120,-262.65 ; -135,-162.65 -130,-162.65 -135,-162.65 ; -120,-262.65 -80,-262.65 ; -120,-262.65 -80,-262.65 ; -80,-262.65 -80,-162.65 -20,-162.65 -20,-262.65 ; -20,-262.65 20,-262.65 ; -20,-262.65 20,-262.65 ; 20,-262.65 20,-162.65 80,-162.65 80,-262.65 120,-262.65 120,-162.65 135,-162.65 135,-127.65 185,-127.65
  text ".Designator" at 58,82.35 h40
  text "LD1086D2M33" at 157,-377.43 h30
Mechanical42:
  text "4" at 6.4,97.14 h16
  text "2" at 6.4,-242.43 h16
  text "1" at -93.6,-242.43 h16
  text "3" at 106.4,-242.43 h16
Mechanical44:
  lines w5: -221,559.57 239,559.57
  text "Sofer Lib Information" at -221,569.57 h25
  text "Ref PN: ***" at -191,519.57 h25
  text "Creat : Sofer Tech" at -191,479.57 h25
  text "Date  : 2009-09-27" at -191,439.57 h25
  text "Rev   : B2" at -191,399.57 h25
  text "Remark: Changed Origin" at -191,359.57 h25
Mechanical45:
  text "TO263-3" at 89,-377.43 h30
Mechanical48:
  lines w1: -180,-262.43 185,-262.43 185,282.57 -180,282.57 -180,-262.43
Mechanical49:
  text "Approved" at 127,97.35 h35
3D body: height 150, standoff 0, extent -208,-312.65 208,312.64

## TP [mil] "TP"
pads (1):
  round 60 hole 40: 1(0,0)
Top Overlay:
  circle w6: c0,0 r40.31
Top 3D Body:
  region: -30.67,0 -29.63,-7.94 -26.56,-15.34 -21.69,-21.69 -15.34,-26.56 -7.94,-29.63 0,-30.67 7.94,-29.63 15.34,-26.56 21.69,-21.69 26.56,-15.34 29.63,-7.94 30.67,0 29.63,7.94 26.56,15.34 21.69,21.69 15.34,26.56 7.94,29.63 0,30.67 -7.94,29.63 -15.34,26.56 -21.69,21.69 -26.56,15.34 -29.63,7.94
Top Component Center:
  circle w1: c0,0 r11.81
  lines w1: -15.75,0 15.75,0 ; 0,-15.75 0,15.75
Top Assembly:
  circle w6: c0,0 r40.31
  text ".Designator" at 24,-10 h20
Mechanical42:
  text "1" at 6.4,0 h16
Mechanical44:
  lines w5: -156,272 304,272
  text "Remark: ***" at -126,72 h25
  text "Rev   : A1" at -126,112 h25
  text "Date  : 2007-04-26" at -126,152 h25
  text "Ref PN: ***" at -126,232 h25
  text "Sofer Lib Information" at -156,282 h25
  text "Creat : Sofer Tech" at -126,192 h25
Mechanical49:
  text "Approved" at 112,0 h35
3D body: height 150, standoff 0, extent -30.67,-30.67 30.67,30.67

## TYCO_ZEN056V130A24LS [mil] "TYCO_ZEN056V130A24LS"
pads (3):
  rect 24x87 smd: 1(-68.69,0)
  rect 24x37 smd: 2(68.69,25) 3(68.69,-25)
Top Overlay:
  lines w6: -75.79,-60 -75.79,-75.79 75.79,-75.79 75.79,-60 ; -75.79,60 -75.79,75.79 75.79,75.79 75.79,60
  text "VIN" at -129,37 h30
  text "GND" at 91,87 h30
  text "OUT" at 91,-8 h30
Top 3D Body:
  region: -85,-75 85,-75 85,75 -85,75
Top Component Center:
  circle w1: c0,0 r11.81
  lines w1: -15.75,0 15.75,0 ; 0,-15.75 0,15.75
Top Assembly:
  lines w5: -75.79,-75.79 -75.79,75.79 75.79,75.79 75.79,-75.79 -75.79,-75.79
  text ".Designator" at -5,21 h30
  text "ZEN056V130A24LS" at 5,45 h30
Mechanical42:
  text "3" at 68.69,-18.6 h16
  text "2" at 68.69,31.4 h16
  text "1" at -68.69,6.4 h16
Mechanical44:
  lines w5: -180,340 280,340
  text "Creat : Yuki" at -150,260 h25
  text "Sofer Lib Information" at -180,350 h25
  text "Ref PN: ZEN056V130A24LS" at -150,300 h25
  text "Date  : 2011-10-19" at -150,220 h25
  text "Rev   : A1" at -150,180 h25
  text "Remark: D031-005A1" at -150,140 h25
Mechanical45:
  text "TYCO_ZEN056V130A24LS" at 40,95 h30
3D body: height 150, standoff 0, extent -85,-75 85,75